# Altium footprint library 1812_C3.PcbLib: 1 footprints
Each footprint in its own frame and in the unit in brackets; x right, y up, seen from the top. Pads: shape width x height; smd on the part's side, far side on the other; paste and mask are expansions set on the pad; w line width, h text height; cw(c..) or ccw(c..) is an arc to the next point about the centre after c.
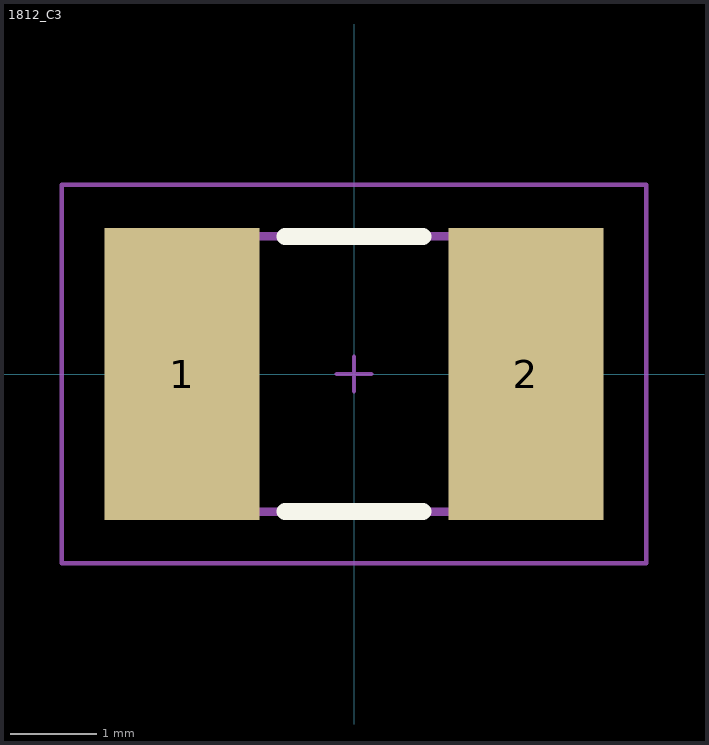
[diagram p0: the footprint, top view; thin cyan lines are the x and y axes]

## 1812_C3 [mm]
height 1.6
pads (2):
  rect 1.8x3.4 smd: 1(-2,0) 2(2,0)
Top Overlay:
  lines w0.2: -0.8,-1.6 0.8,-1.6 ; -0.8,1.6 0.8,1.6
Mechanical 13:
  lines w0.1: -1.8,-1.6 -1.8,1.6 ; 1.8,-1.6 1.8,1.6 ; -2.4,-1.6 2.4,-1.6 2.4,1.6 -2.4,1.6 -2.4,-1.6
Mechanical 15:
  lines w0.05: -0.2,0 0.2,0 ; 0,-0.2 0,0.2 ; -3.4,-2.2 -3.4,2.2 3.4,2.2 3.4,-2.2 -3.4,-2.2
3D body: height 1.6, standoff 0, extent -2.399,-1.599 -1.801,1.599
3D body: height 1.6, standoff 0, extent -1.799,-1.599 1.799,1.599
3D body: height 1.6, standoff 0, extent 1.801,-1.599 2.399,1.599